# Altium schematic symbol library Микрофоны.SchLib: 1 symbol
Pins are listed as number, name and electrical type; pins without a type are passive.

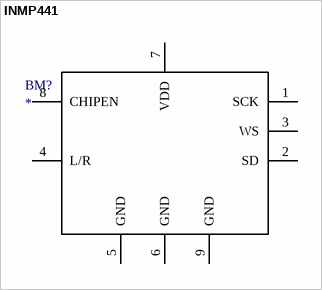
[diagram p0: symbol INMP441]

## INMP441
designator BM?
pins: 1 SCK, 2 SD, 3 WS, 4 L/R, 5 GND, 6 GND, 7 VDD, 8 CHIPEN, 9 GND